# Altium footprint library Common-Parts-Library.PcbLib: 20 footprints (part 2 of 2)
Each footprint in its own frame and in the unit in brackets; x right, y up, seen from the top. Pads: shape width x height; smd on the part's side, far side on the other; paste and mask are expansions set on the pad; w line width, h text height; cw(c..) or ccw(c..) is an arc to the next point about the centre after c.
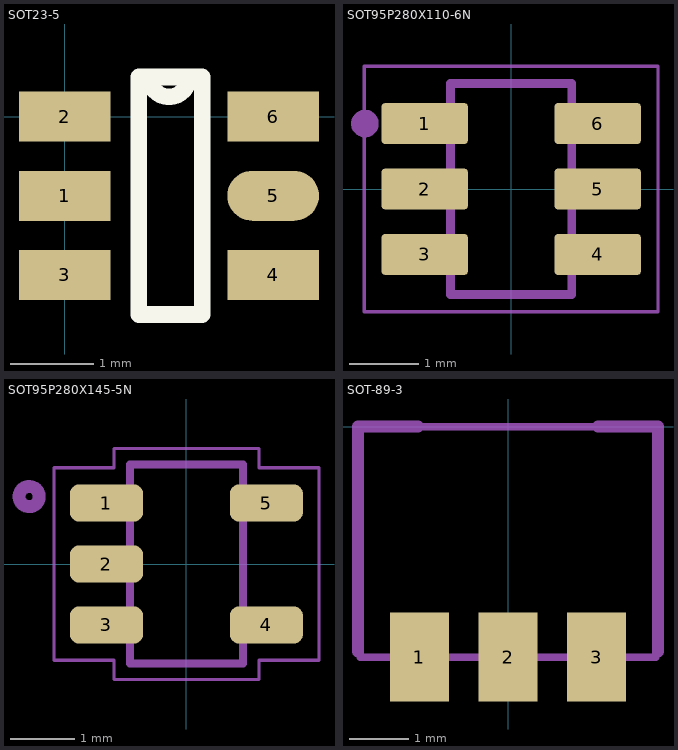
[diagram p1: the footprints below, top view; thin cyan lines are the x and y axes]

## SOT23-5 [mm]
pads (6):
  rect 1.1x0.6 smd: 1(0,-0.95) 2(0,0) 3(0,-1.9) 4(2.5,-1.9) 6(2.5,0)
  oval 1.1x0.6 smd: 5(2.5,-0.95)
Top Overlay:
  lines w0.2: 0.889,-2.375 1.651,-2.375 1.651,0.475 1.012,0.475 ccw(c1.25,0.475) 1.488,0.475 0.889,0.475 0.889,-2.375

## SOT95P280X110-6N [mm]
pads (6):
  rrect15% 1.25x0.59 smd: 1(-1.255,0.95) 2(-1.255,0) 3(-1.255,-0.95) 4(1.255,-0.95) 5(1.255,0) 6(1.255,0.95)
Mechanical 8:
  lines w0.127: -0.88,-1.53 0.88,-1.53 0.88,1.53 -0.88,1.53 -0.88,-1.53
Mechanical 22:
  circle w0.2: c-2.123,0.95 r0.1
  lines w0.127: -0.88,-1.53 0.88,-1.53 ; -0.88,1.53 0.88,1.53
Mechanical 30:
  lines w0.05: -2.13,-1.78 -2.13,1.78 2.13,1.78 2.13,-1.78 -2.13,-1.78

## SOT95P280X145-5N [mil]
pads (5):
  rrect50% 44.88x22.83 smd: 1(-49.02,37.4) 2(-49.02,0) 3(-49.02,-37.4) 4(49.02,-37.4) 5(49.02,37.4)
Mechanical 8:
  lines w5: -34.65,-61.02 -34.65,61.02 34.65,61.02 34.65,-61.02 -34.65,-61.02
Mechanical 22:
  circle w7.87: c-96.46,41.34 r6.22
  lines w5: -34.65,-61.02 34.65,-61.02 ; -34.65,61.02 34.65,61.02
Mechanical 30:
  lines w1.97: -81.3,-59.06 -44.49,-59.06 -44.49,-70.87 44.49,-70.87 44.49,-59.06 81.3,-59.06 81.3,59.06 44.49,59.06 44.49,70.87 -44.49,70.87 -44.49,59.06 -81.3,59.06 -81.3,-59.06

## SOT-89-3 [mm]
pads (3):
  rect 1x1.5 smd: 1(-1.5,-3.9) 2(0,-3.9) 3(1.5,-3.9)
Mechanical 8:
  lines w0.127: -2.5,-3.9 -2.5,0 2.5,0 2.5,-3.9 -2.5,-3.9
Mechanical 22:
  lines w0.203: -2.54,-3.81 -2.54,0 -1.524,0 ; 1.524,0 2.54,0 2.54,-3.81